# Altium schematic symbol library jlcpcb_components.SCHLIB: 39 symbols
Pins are listed as number, name and electrical type; pins without a type are passive.

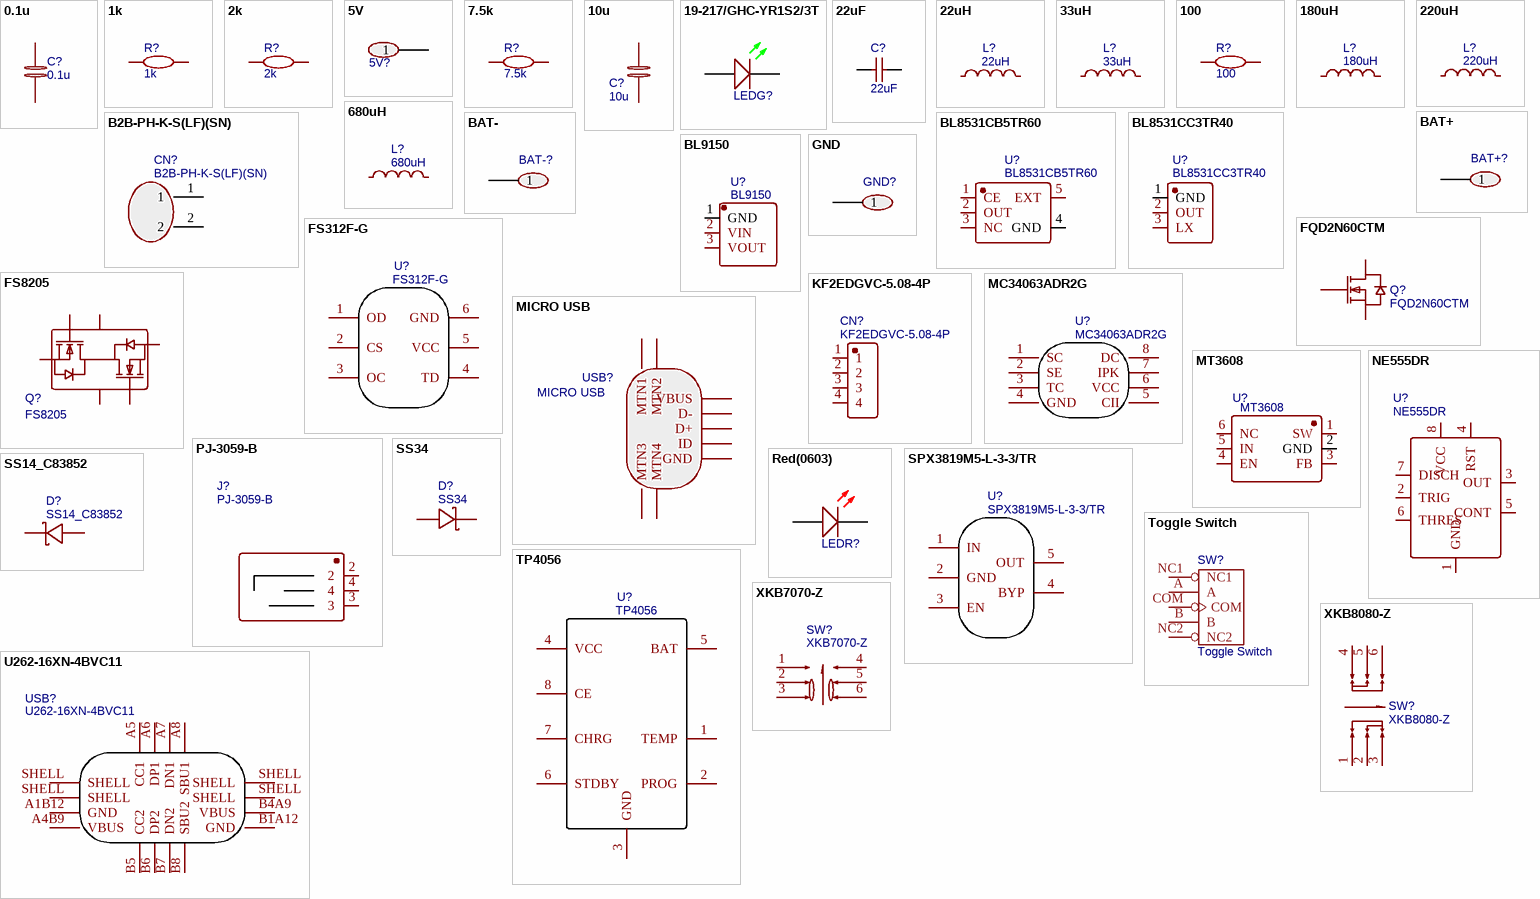
[diagram p0: symbols 0.1u to XKB8080-Z]

## 0.1u
designator C?
nameAlias: Value(F); BOM_Manufacturer Part: ?; spicePre: C; spiceSymbolName: Capacitor
footprint 0603
pins: 1, 2

## 1k
designator R?
nameAlias: Value(Ω); BOM_Manufacturer Part: ?; spicePre: R; spiceSymbolName: Resistor
footprint 0603
pins: 1, 2

## 2k
designator R?
nameAlias: Value(Ω); BOM_Manufacturer Part: ?; spicePre: R; spiceSymbolName: Resistor
footprint 0603
pins: 1, 2

## 5V
designator 5V?  (value not drawn)
BOM_Manufacturer: LCSC; BOM_Manufacturer Part: Header-Male-2.54_1x1; BOM_Supplier: LCSC; spicePre: P; BOM_Supplier Part: C81276
footprint HDR-1X1/2.54
pins: 1

## 7.5k
designator R?
nameAlias: Value(Ω); BOM_Manufacturer Part: ?; spicePre: R; spiceSymbolName: Resistor
footprint 0603
pins: 1, 2

## 10u
designator C?
nameAlias: Value(F); BOM_Manufacturer Part: ?; spicePre: C; spiceSymbolName: Capacitor
footprint 0603
pins: 1, 2

## 19-217/GHC-YR1S2/3T
designator LEDG?  (value not drawn)
BOM_Manufacturer: EVERLIGHT; BOM_Supplier: LCSC; BOM_Manufacturer Part: 19-217/GHC-YR1S2/3T; spicePre: L; BOM_Supplier Part: C72043
footprint LED-0603
pins: 1 A, 2 C

## 22uF
designator C?
BOM_Manufacturer: FH; BOM_Manufacturer Part: 1812X226K250NT; Voltage: 25V; Tolerance: ±10%; Value: 22uF; BOM_Supplier: LCSC; spicePre: C; BOM_Supplier Part: C28504
footprint 1812
pins: 1, 2

## 22uH
designator L?
BOM_Manufacturer: LCSC; BOM_Manufacturer Part: SMRH74-220MT; Value: 22uH; BOM_Supplier: LCSC; spicePre: L; BOM_Supplier Part: C27442
footprint 7*7*4
pins: 1, 2

## 33uH
designator L?
BOM_Manufacturer: YJYCOIN; BOM_Manufacturer Part: YNR6045-330M; nameAlias: Inductance; Contributor: LCSC; BOM_Supplier: LCSC; BOM_Supplier Part: C497840; spicePre: L; spiceSymbolName: YNR6045-330M
footprint IND-SMD_L6.0-W6.0
pins: 1, 2

## 100
designator R?
nameAlias: Value(Ω); BOM_Manufacturer Part: ?; spicePre: R; spiceSymbolName: Resistor
footprint 0603
pins: 1, 2

## 180uH
designator L?
BOM_Manufacturer: Chilisin Elec; BOM_Manufacturer Part: SCDS105R-181M-N; nameAlias: Inductance; Contributor: LCSC; BOM_Supplier: LCSC; BOM_Supplier Part: C329730; BOM_JLCPCB Part Class: Extended Part; spicePre: L; spiceSymbolName: SCDS105R-181M-N
footprint IND-SMD_L10.5-W10.3_PSPHAQ104R
pins: 1, 2

## 220uH
designator L?
BOM_Manufacturer: YJYCOIN; BOM_Manufacturer Part: YPRH1209-221M; nameAlias: Inductance; Contributor: LCSC; BOM_Supplier: LCSC; BOM_Supplier Part: C339959; BOM_JLCPCB Part Class: Extended Part; spicePre: L; spiceSymbolName: YPRH1209-221M
footprint IND-SMD_L12.0-W12.0_CDRH125L125NP-470MC
pins: 1, 2

## 680uH
designator L?
BOM_Manufacturer: YJYCOIN; BOM_Manufacturer Part: YNR6045-681M; nameAlias: Inductance; Contributor: LCSC; BOM_Supplier: LCSC; BOM_Supplier Part: C497844; spicePre: L; spiceSymbolName: YNR6045-681M
footprint IND-SMD_L6.0-W6.0
pins: 1, 2

## B2B-PH-K-S(LF)(SN)
designator CN?
BOM_Manufacturer: JST; Contributor: LCSC; BOM_Supplier: LCSC; BOM_Manufacturer Part: B2B-PH-K-S(LF)(SN); BOM_Supplier Part: C131337; BOM_JLCPCB Part Class: Extended Part; spicePre: C; spiceSymbolName: B2B-PH-K-S(LF)(SN)
footprint CONN-TH_B2B-PH-K-S
pins: 1, 2

## BAT+
designator BAT+?  (value not drawn)
BOM_Manufacturer: LCSC; BOM_Manufacturer Part: Header-Male-2.54_1x1; BOM_Supplier: LCSC; spicePre: P; BOM_Supplier Part: C81276
footprint HDR-1X1/2.54
pins: 1

## BAT-
designator BAT-?  (value not drawn)
BOM_Manufacturer: LCSC; BOM_Manufacturer Part: Header-Male-2.54_1x1; BOM_Supplier: LCSC; spicePre: P; BOM_Supplier Part: C81276
footprint HDR-1X1/2.54
pins: 1

## BL8531CB5TR60
designator U?
BOM_Manufacturer: BL(Shanghai Belling); Contributor: LCSC; BOM_Supplier: LCSC; BOM_Supplier Part: C691887; BOM_Manufacturer Part: BL8531CB5TR60; BOM_JLCPCB Part Class: Extended Part; spicePre: U; spiceSymbolName: BL8531CB5TR60
footprint SOT-23-5_L2.9-W1.6-P0.95-LS2.8-BL
pins: 1 CE, 2 OUT, 3 NC, 4 GND, 5 EXT

## BL8531CC3TR40
designator U?
BOM_Manufacturer: Shanghai Belling; Contributor: LCSC; BOM_Supplier: LCSC; BOM_Supplier Part: C384582; BOM_Manufacturer Part: BL8531CC3TR40; BOM_JLCPCB Part Class: Extended Part; spicePre: U; spiceSymbolName: BL8531CC3TR40
footprint SOT-89-3_L4.5-W2.5-P1.50-LS4.2-BR
pins: 1 GND, 2 OUT, 3 LX

## BL9150
designator U?
BOM_Manufacturer: BL(上海贝岭); BOM_Supplier: LCSC; BOM_Manufacturer Part: BL9150; BOM_Supplier Part: C90148; BOM_JLCPCB Part Class: Extended Part; spicePre: U; spiceSymbolName: BL9150
footprint SOT-89-3_L4.5-W2.5-P1.50-LS4.2-BR
pins: 1 GND, 2 VIN, 3 VOUT

## FQD2N60CTM
designator Q?
BOM_Manufacturer: FAIRCHILD; BOM_Supplier: LCSC; BOM_Manufacturer Part: FQD2N60CTM; BOM_Supplier Part: C5386; BOM_JLCPCB Part Class: Extended Part; spicePre: Q; spiceSymbolName: FQD2N60CTM
footprint TO-252-2_L6.5-W6.1-P4.58-LS10.0-TL
pins: 1 G, 3 S, 4 D

## FS312F-G
designator U?
BOM_Manufacturer: FORTUNE; BOM_Manufacturer Part: DW01+G; BOM_Supplier: LCSC; spicePre: U; BOM_Supplier Part: C14213
footprint SOT-23-6
pins: 1 OD, 2 CS, 3 OC, 4 TD, 5 VCC, 6 GND

## FS8205
designator Q?
BOM_Manufacturer: FORTUNE; BOM_Supplier: LCSC; BOM_Manufacturer Part: FS8205; spicePre: Q; BOM_Supplier Part: C32254
footprint SOT-23-6
pins: 1 S1, 2 D12, 3 S2, 4 G2, 5 D12, 6 G1

## GND
designator GND?  (value not drawn)
BOM_Manufacturer: LCSC; BOM_Manufacturer Part: Header-Male-2.54_1x1; BOM_Supplier: LCSC; spicePre: P; BOM_Supplier Part: C81276
footprint HDR-1X1/2.54
pins: 1

## KF2EDGVC-5.08-4P
designator CN?
BOM_Manufacturer: Cixi Kefa Elec; Contributor: LCSC; BOM_Supplier: LCSC; BOM_Supplier Part: C441388; BOM_Manufacturer Part: KF2EDGVC-5.08-4P; BOM_JLCPCB Part Class: Extended Part; spicePre: C; spiceSymbolName: KF2EDGVC-5.08-4P
footprint CONN-TH_4P-P5.08_KF2EDGVC-5.08-4P
pins: 1, 2, 3, 4

## MC34063ADR2G
designator U?
BOM_Manufacturer: ON; BOM_Supplier: LCSC; BOM_Manufacturer Part: MC34063ADR2G; BOM_Supplier Part: C32078; BOM_JLCPCB Part Class: Basic Part; spicePre: U; spiceSymbolName: MC34063ADR2G
footprint SOIC-8_L5.0-W4.0-P1.27-LS6.0-BL
pins: 1 SC, 2 SE, 3 TC, 4 GND, 5 CII, 6 VCC, 7 IPK, 8 DC

## MICRO USB
designator USB?
BOM_Manufacturer: LCSC; BOM_Manufacturer Part: MICRO USB 5S B; BOM_Supplier: LCSC; spicePre: U; BOM_Supplier Part: C10418
footprint MICRO-USB-1
pins: 0 MTN4, 0 MTN3, 0 MTN2, 0 MTN1, 1 VBUS, 2 D-, 3 D+, 4 ID, 5 GND

## MT3608
designator U?
BOM_Manufacturer: LCSC; BOM_Supplier: LCSC; BOM_Manufacturer Part: MT3608; spicePre: U; BOM_Supplier Part: C84817
footprint SOT-23-6
pins: 1 SW, 2 GND, 3 FB, 4 EN, 5 IN, 6 NC

## NE555DR
designator U?
BOM_Manufacturer: TI; spicePre: X; BOM_Supplier: LCSC; BOM_Manufacturer Part: NE555DR; BOM_Supplier Part: C7593; BOM_JLCPCB Part Class: Basic Part; spiceSymbolName: NE555DR
footprint SOIC-8_L4.9-W3.9-P1.27-LS6.0-BL
pins: 1 GND, 2 TRIG, 3 OUT, 4 RST, 5 CONT, 6 THRES, 7 DISCH, 8 VCC

## PJ-3059-B
designator J?
footprint PJ-3059-B
pins: 2, 3, 4

## Red(0603)
designator LEDR?  (value not drawn)
BOM_Manufacturer: LCSC; BOM_Manufacturer Part: KT-0603R; BOM_Supplier: LCSC; spicePre: L; BOM_Supplier Part: C2286
footprint LED-0603
pins: 1 A, 2 C

## SPX3819M5-L-3-3/TR
designator U?
BOM_Manufacturer: EXAR; BOM_Supplier: LCSC; BOM_Manufacturer Part: SPX3819M5-L-3-3/TR; BOM_Supplier Part: C9055; BOM_JLCPCB Part Class: Extended Part; spicePre: U; spiceSymbolName: SPX3819M5-L-3-3/TR
footprint SOT-23-5_L3.0-W1.7-P0.95-LS2.8-BR
pins: 1 IN, 2 GND, 3 EN, 4 BYP, 5 OUT

## SS14_C83852
designator D?
BOM_Manufacturer: ON Semicon; BOM_Manufacturer Part: SS14; Contributor: LCSC; BOM_Supplier: LCSC; BOM_Supplier Part: C83852; BOM_JLCPCB Part Class: Extended Part; spicePre: D; spiceSymbolName: SS14_C83852
footprint SMA_L4.3-W2.6-LS5.2-RD
pins: 1 K, 2 A

## SS34
designator D?
BOM_Supplier: LCSC; BOM_Manufacturer Part: SS34; spicePre: D; BOM_Supplier Part: C8678
footprint SMA(DO-214AC)
pins: 1 A, 2 K

## Toggle Switch
designator SW?
BOM_Manufacturer Part: 3P-2.0-90D-REINFORCE;; catid: 20; spicePre: S
footprint SW5-2.0-8.8X4.4X4.7MM-90D
pins: A, B, COM, NC1, NC2

## TP4056
designator U?
BOM_Manufacturer: TOPPOWER; Contributor: Guest; BOM_Supplier: LCSC; BOM_Manufacturer Part: TP4056; spicePre: U; BOM_Supplier Part: C16581
footprint SOP-8_EP_150MIL
pins: 1 TEMP, 2 PROG, 3 GND, 4 VCC, 5 BAT, 6 STDBY, 7 CHRG, 8 CE

## U262-16XN-4BVC11
designator USB?
BOM_Manufacturer: XKB Enterprise; Contributor: LCSC; BOM_Supplier: LCSC; BOM_Supplier Part: C319148; BOM_Manufacturer Part: U262-16XN-4BVC11; BOM_JLCPCB Part Class: Extended Part; spicePre: U; spiceSymbolName: U262-16XN-4BVC11
footprint USB-3.1-SMD_U262-161N-4BVC11
pins: A1B12 GND, A4B9 VBUS, A5 CC1, A6 DP1, A7 DN1, A8 SBU1, B1A12 GND, B4A9 VBUS, B5 CC2, B6 DP2, B7 DN2, B8 SBU2, SHELL, SHELL, SHELL, SHELL

## XKB7070-Z
designator SW?
BOM_Manufacturer: XKB Enterprise; Contributor: LCSC; BOM_Supplier: LCSC; BOM_Supplier Part: C318863; BOM_Manufacturer Part: XKB7070-Z; BOM_JLCPCB Part Class: Extended Part; spicePre: S; spiceSymbolName: XKB7070-Z
footprint SW-TH_6P-L7.0-W7.0-P2.00
pins: 1, 2, 3, 4, 5, 6

## XKB8080-Z
designator SW?
BOM_Manufacturer: XKB Enterprise; Contributor: LCSC; BOM_Supplier: LCSC; BOM_Supplier Part: C318860; BOM_Manufacturer Part: XKB8080-Z; BOM_JLCPCB Part Class: Extended Part; spicePre: S; spiceSymbolName: XKB8080-Z
footprint SW-TH_6P-L8.0-W8.0-P2.50
pins: 1, 2, 3, 4, 5, 6